# Altium footprint library CH32V307_PCB.PcbLib: 1 footprints
Each footprint in its own frame and in the unit in brackets; x right, y up, seen from the top. Pads: shape width x height; smd on the part's side, far side on the other; paste and mask are expansions set on the pad; w line width, h text height; cw(c..) or ccw(c..) is an arc to the next point about the centre after c.
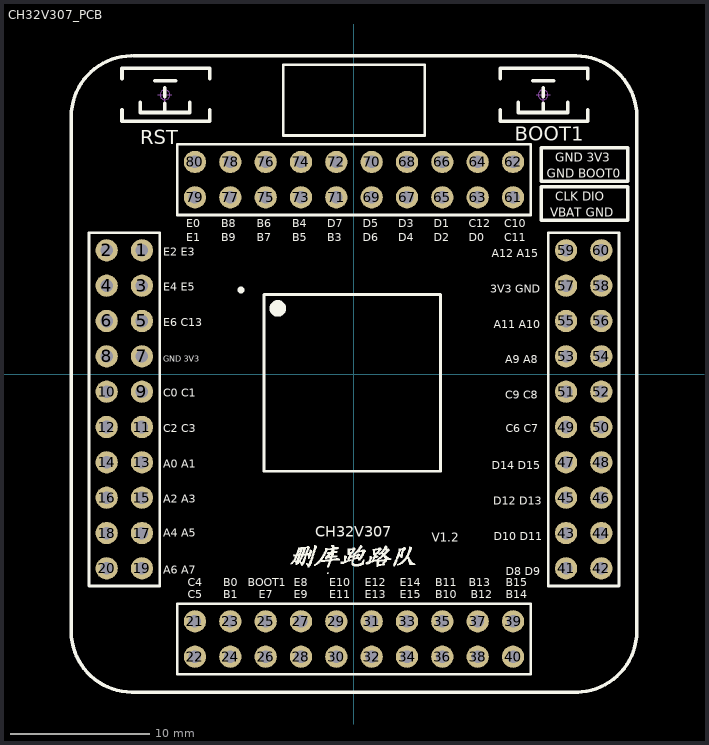
[diagram p0: the footprint, top view; thin cyan lines are the x and y axes]

## CH32V307_PCB [mm]
pads (80):
  round 1.6 hole 0.9: 1(-15.24,8.89) 2(-17.78,8.89) 3(-15.24,6.35) 4(-17.78,6.35) 5(-15.24,3.81) 6(-17.78,3.81) 7(-15.24,1.27) 8(-17.78,1.27) 9(-15.24,-1.27) 10(-17.78,-1.27) 11(-15.24,-3.81) 12(-17.78,-3.81) 13(-15.24,-6.35) 14(-17.78,-6.35) 15(-15.24,-8.89) 16(-17.78,-8.89) 17(-15.24,-11.43) 18(-17.78,-11.43) 19(-15.24,-13.97) 20(-17.78,-13.97) 21(-11.43,-17.78) 22(-11.43,-20.32) 23(-8.89,-17.78) 24(-8.89,-20.32) 25(-6.35,-17.78) 26(-6.35,-20.32) 27(-3.81,-17.78) 28(-3.81,-20.32) 29(-1.27,-17.78) 30(-1.27,-20.32) 31(1.27,-17.78) 32(1.27,-20.32) 33(3.81,-17.78) 34(3.81,-20.32) 35(6.35,-17.78) 36(6.35,-20.32) 37(8.89,-17.78) 38(8.89,-20.32) 39(11.43,-17.78) 40(11.43,-20.32) 41(15.24,-13.97) 42(17.78,-13.97) 43(15.24,-11.43) 44(17.78,-11.43) 45(15.24,-8.89) 46(17.78,-8.89) 47(15.24,-6.35) 48(17.78,-6.35) 49(15.24,-3.81) 50(17.78,-3.81) 51(15.24,-1.27) 52(17.78,-1.27) 53(15.24,1.27) 54(17.78,1.27) 55(15.24,3.81) 56(17.78,3.81) 57(15.24,6.35) 58(17.78,6.35) 59(15.24,8.89) 60(17.78,8.89) 61(11.43,12.7) 62(11.43,15.24) 63(8.89,12.7) 64(8.89,15.24) 65(6.35,12.7) 66(6.35,15.24) 67(3.81,12.7) 68(3.81,15.24) 69(1.27,12.7) 70(1.27,15.24) 71(-1.27,12.7) 72(-1.27,15.24) 73(-3.81,12.7) 74(-3.81,15.24) 75(-6.35,12.7) 76(-6.35,15.24) 77(-8.89,12.7) 78(-8.89,15.24) 79(-11.43,12.7) 80(-11.43,15.24)
Top Overlay:
  drawing of 961 lines, arcs and shapes, not listed
  text "CH32V307" at -2.794,-11.684 h0.76
  text "E2 E3" at -13.716,8.509 h0.58
  text "E4 E5" at -13.716,5.969 h0.58
  text "E6 C13" at -13.716,3.429 h0.58
  text "GND 3V3" at -13.716,0.889 h0.43
  text "C0 C1" at -13.716,-1.651 h0.58
  text "C2 C3" at -13.716,-4.191 h0.58
  text "A0 A1" at -13.716,-6.731 h0.58
  text "A2 A3" at -13.716,-9.271 h0.58
  text "A6 A7" at -13.716,-14.351 h0.58
  text "D8 D9" at 10.922,-14.478 h0.58
  text "D10 D11" at 10.033,-11.938 h0.58
  text "D12 D13" at 10.003,-9.398 h0.58
  text "D14 D15" at 9.906,-6.858 h0.58
  text "C6 C7" at 10.922,-4.191 h0.58
  text "C9 C8" at 10.879,-1.778 h0.58
  text "A9 A8" at 10.879,0.762 h0.58
  text "A11 A10" at 10.033,3.302 h0.58
  text "3V3 GND" at 9.779,5.842 h0.58
  text "E0" at -12.065,10.541 h0.58
  text "B8" at -9.525,10.541 h0.58
  text "B6" at -6.985,10.541 h0.58
  text "B4" at -4.445,10.541 h0.58
  text "D7" at -1.905,10.541 h0.58
  text "D5" at 0.635,10.541 h0.58
  text "D3" at 3.175,10.541 h0.58
  text "D1" at 5.715,10.541 h0.58
  text "C12" at 8.255,10.541 h0.58
  text "C10" at 10.795,10.541 h0.58
  text "C11" at 10.795,9.525 h0.58
  text "D0" at 8.255,9.525 h0.58
  text "D2" at 5.715,9.525 h0.58
  text "D4" at 3.175,9.525 h0.58
  text "D6" at 0.635,9.525 h0.58
  text "B3" at -1.905,9.525 h0.58
  text "B5" at -4.445,9.525 h0.58
  text "B7" at -6.985,9.525 h0.58
  text "B9" at -9.525,9.525 h0.58
  text "E1" at -12.065,9.525 h0.58
  text "B14" at 10.922,-16.129 h0.58
  text "B12" at 8.382,-16.129 h0.58
  text "B10" at 5.842,-16.129 h0.58
  text "E15" at 3.302,-16.129 h0.58
  text "E13" at 0.762,-16.129 h0.58
  text "E11" at -1.778,-16.129 h0.58
  text "E9" at -4.318,-16.129 h0.58
  text "E7" at -6.858,-16.129 h0.58
  text "B1" at -9.398,-16.129 h0.58
  text "C5" at -11.938,-16.129 h0.58
  text "B15" at 10.922,-15.24 h0.58
  text "B13" at 8.255,-15.24 h0.58
  text "B11" at 5.842,-15.24 h0.58
  text "E14" at 3.302,-15.24 h0.58
  text "E12" at 0.762,-15.24 h0.58
  text "E10" at -1.778,-15.24 h0.58
  text "E8" at -4.318,-15.24 h0.58
  text "BOOT1" at -7.62,-15.24 h0.58
  text "B0" at -9.398,-15.24 h0.58
  text "C4" at -11.938,-15.24 h0.58
  text "V1.2" at 5.588,-12.065 h0.64
  text "A12 A15" at 9.906,8.382 h0.58
  text "A4 A5" at -13.716,-11.684 h0.58
  text "RST" at -15.367,16.51 h1.02
  text "BOOT1" at 11.557,16.764 h1.02
  text "GND 3V3" at 14.478,15.24 h0.64
  text "GND BOOT0" at 13.843,14.097 h0.64
  text "VBAT GND" at 14.097,11.303 h0.64
  text "CLK DIO" at 14.478,12.446 h0.64
Mechanical 15:
  circle w0.05: c-13.589,20.066 r0.35
  circle w0.05: c13.589,20.066 r0.35
  lines w0.05: -14.089,20.066 -13.089,20.066 ; -13.589,19.566 -13.589,20.566 ; 13.089,20.066 14.089,20.066 ; 13.589,19.566 13.589,20.566